# EAGLE library part WIC (library C1600R)
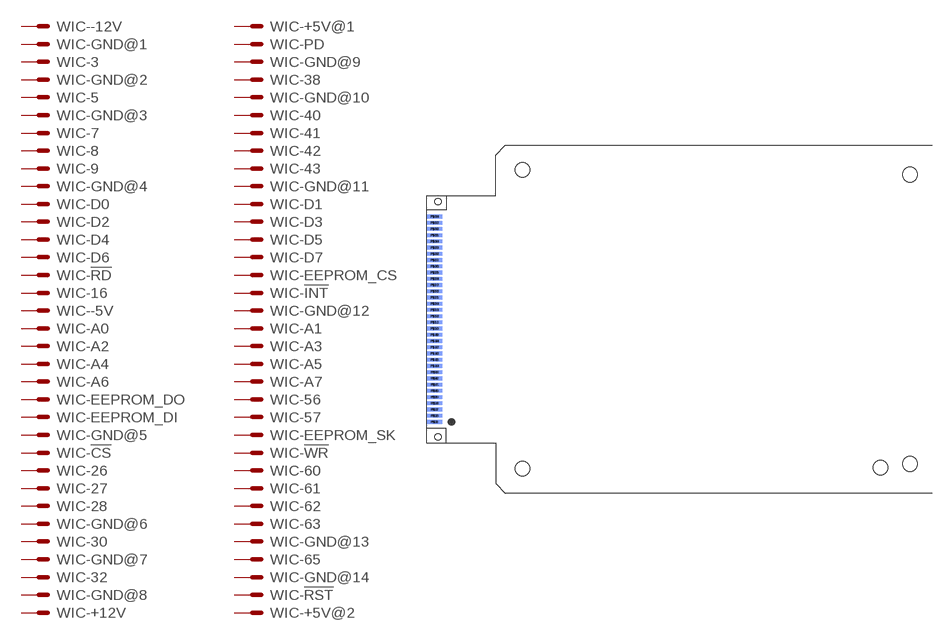
[diagram p0: symbol with the pads of WIC; footprint WIC]

Designator prefix WIC; gates --12V=MS -GND@1=MS -3=MS -GND@2=MS -5=MS -GND@3=MS -7=MS -8=MS -9=MS -GND@4=MS -D0=MS -D2=MS -D4=MS -D6=MS -!RD!=MS -16=MS --5V=MS -A0=MS -A2=MS -A4=MS -A6=MS -EEPROM_DO=MS -EEPROM_DI=MS -GND@5=MS -!CS!=MS -26=MS -27=MS -28=MS -GND@6=MS -30=MS -GND@7=MS -32=MS -GND@8=MS -+12V=MS -+5V@1=MS -PD=MS -GND@9=MS -38=MS -GND@10=MS -40=MS -41=MS -42=MS -43=MS -GND@11=MS -D1=MS -D3=MS -D5=MS -D7=MS -EEPROM_CS=MS -!INT!=MS -GND@12=MS -A1=MS -A3=MS -A5=MS -A7=MS -56=MS -57=MS -EEPROM_SK=MS -!WR!=MS -60=MS -61=MS -62=MS -63=MS -GND@13=MS -65=MS -GND@14=MS -!RST!=MS -+5V@2=MS

## WIC  [WIC]
P$1  --12V:MS  pas
P$2  -GND@1:MS  pas
P$3  -3:MS  pas
P$4  -GND@2:MS  pas
P$5  -5:MS  pas
P$6  -GND@3:MS  pas
P$7  -7:MS  pas
P$8  -8:MS  pas
P$9  -9:MS  pas
P$10  -GND@4:MS  pas
P$11  -D0:MS  pas
P$12  -D2:MS  pas
P$13  -D4:MS  pas
P$14  -D6:MS  pas
P$15  -!RD!:MS  pas
P$16  -16:MS  pas
P$17  --5V:MS  pas
P$18  -A0:MS  pas
P$19  -A2:MS  pas
P$20  -A4:MS  pas
P$21  -A6:MS  pas
P$22  -EEPROM_DO:MS  pas
P$23  -EEPROM_DI:MS  pas
P$24  -GND@5:MS  pas
P$25  -!CS!:MS  pas
P$26  -26:MS  pas
P$27  -27:MS  pas
P$28  -28:MS  pas
P$29  -GND@6:MS  pas
P$30  -30:MS  pas
P$31  -GND@7:MS  pas
P$32  -32:MS  pas
P$33  -GND@8:MS  pas
P$34  -+12V:MS  pas
P$35  -+5V@1:MS  pas
P$36  -PD:MS  pas
P$37  -GND@9:MS  pas
P$38  -38:MS  pas
P$39  -GND@10:MS  pas
P$40  -40:MS  pas
P$41  -41:MS  pas
P$42  -42:MS  pas
P$43  -43:MS  pas
P$44  -GND@11:MS  pas
P$45  -D1:MS  pas
P$46  -D3:MS  pas
P$47  -D5:MS  pas
P$48  -D7:MS  pas
P$49  -EEPROM_CS:MS  pas
P$50  -!INT!:MS  pas
P$51  -GND@12:MS  pas
P$52  -A1:MS  pas
P$53  -A3:MS  pas
P$54  -A5:MS  pas
P$55  -A7:MS  pas
P$56  -56:MS  pas
P$57  -57:MS  pas
P$58  -EEPROM_SK:MS  pas
P$59  -!WR!:MS  pas
P$60  -60:MS  pas
P$61  -61:MS  pas
P$62  -62:MS  pas
P$63  -63:MS  pas
P$64  -GND@13:MS  pas
P$65  -65:MS  pas
P$66  -GND@14:MS  pas
P$67  -!RST!:MS  pas
P$68  -+5V@2:MS  pas

## Footprint WIC (pad centres in mm)
smd 3 x 0.75: P$1 1.6,14.55; P$2 1.6,15.82; P$3 1.6,17.09; P$4 1.6,18.36; P$5 1.6,19.63; P$6 1.6,20.9; P$7 1.6,22.17; P$8 1.6,23.44; P$9 1.6,24.71; P$10 1.6,25.98; P$11 1.6,27.25; P$12 1.6,28.52; P$13 1.6,29.79; P$14 1.6,31.06; P$15 1.6,32.33; P$16 1.6,33.6; P$17 1.6,34.87; P$18 1.6,36.14; P$19 1.6,37.41; P$20 1.6,38.68; P$21 1.6,39.95; P$22 1.6,41.22; P$23 1.6,42.49; P$24 1.6,43.76; P$25 1.6,45.03; P$26 1.6,46.3; P$27 1.6,47.57; P$28 1.6,48.84; P$29 1.6,50.11; P$30 1.6,51.38; P$31 1.6,52.65; P$32 1.6,53.92; P$33 1.6,55.19; P$34 1.6,56.46
smd 3 x 0.75 bottom: P$35 1.6,14.55; P$36 1.6,15.82; P$37 1.6,17.09; P$38 1.6,18.36; P$39 1.6,19.63; P$40 1.6,20.9; P$41 1.6,22.17; P$42 1.6,23.44; P$43 1.6,24.71; P$44 1.6,25.98; P$45 1.6,27.25; P$46 1.6,28.52; P$47 1.6,29.79; P$48 1.6,31.06; P$49 1.6,32.33; P$50 1.6,33.6; P$51 1.6,34.87; P$52 1.6,36.14; P$53 1.6,37.41; P$54 1.6,38.68; P$55 1.6,39.95; P$56 1.6,41.22; P$57 1.6,42.49; P$58 1.6,43.76; P$59 1.6,45.03; P$60 1.6,46.3; P$61 1.6,47.57; P$62 1.6,48.84; P$63 1.6,50.11; P$64 1.6,51.38; P$65 1.6,52.65; P$66 1.6,53.92; P$67 1.6,55.19; P$68 1.6,56.46
hole 1.3 at 2.25,11.5
hole 1.3 at 2.25,59.5
hole 3 at 19.5,66
hole 3 at 19.5,5
hole 3 at 92.5,5.25
hole 3 at 98.5,6
hole 3 at 98.5,65